# Altium footprint library QUTMS_InductorLibrary.PcbLib: 5 footprints
Each footprint in its own frame and in the unit in brackets; x right, y up, seen from the top. Pads: shape width x height; smd on the part's side, far side on the other; paste and mask are expansions set on the pad; w line width, h text height; cw(c..) or ccw(c..) is an arc to the next point about the centre after c.
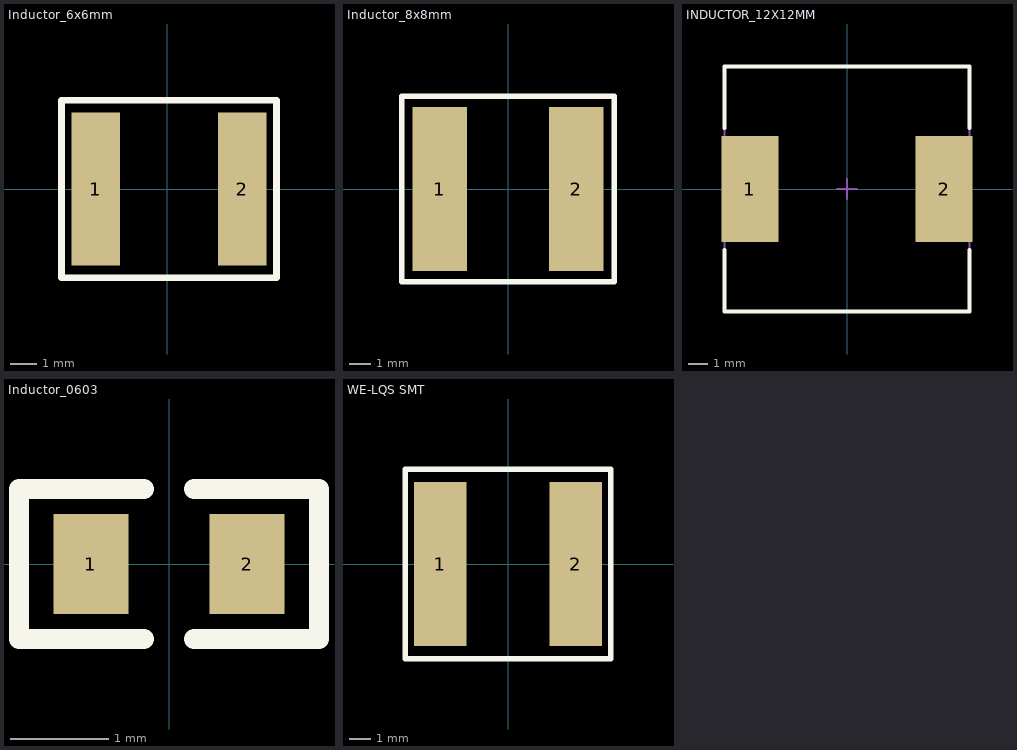
[diagram p0: the footprints below, top view; thin cyan lines are the x and y axes]

## Inductor_6x6mm [mm]
pads (2):
  rect 1.8x5.7 smd: 1(-2.667,0) 2(2.794,0)
Top Overlay:
  lines w0.254: -3.937,-3.302 -3.937,3.302 4.064,3.302 4.064,-3.302 -3.937,-3.302
3D body "74404064221_WE-LQS.stp": height 4.56, standoff 0.06, extent -3,-3 3,3

## Inductor_8x8mm [mm]
pads (2):
  rect 2.54x7.62 smd: 1(-3.175,0) 2(3.175,0)
Top Overlay:
  lines w0.254: -4.953,-4.318 4.953,-4.318 4.953,4.318 -4.953,4.318 -4.953,-4.318
3D body "74404084010_Download_STP_WE-LQS-8040_rev1.stp": height 4.41, standoff 0.21, extent -4,-4 4,4

## INDUCTOR_12X12MM [mm]
pads (2):
  rect 2.9x5.4 smd: 1(-4.95,0) 2(4.95,0)
Top Overlay:
  lines w0.2: -6.25,-3.1 -6.25,-6.25 6.25,-6.25 6.25,-3.1 ; -6.25,3.1 -6.25,6.25 6.25,6.25 6.25,3.1
Mechanical 13:
  lines w0.1: -6.25,-6.25 6.25,-6.25 6.25,6.25 -6.25,6.25 -6.25,-6.25
Mechanical 15:
  lines w0.1: -0.5,0 0.5,0 ; 0,-0.5 0,0.5
3D body "7447709001.stp": height 10.36, standoff -0.01, extent -6,-6 6,6

## Inductor_0603 [mil]
pads (2):
  rect 30x40 smd: 1(-31.24,0) 2(31.24,0)
Top Overlay:
  lines w8: -10,-30 -60,-30 -60,30 -10,30 ; 10,-30 60,-30 60,30 10,30
3D body "rsmd-0603_l1-6_w0-8_h0-45.stp": height 17.72, standoff 0, extent -31.49,-15.74 31.5,15.75

## WE-LQS SMT [mm]
pads (2):
  rect 2.4x7.5 smd: 1(-3.1,0) 2(3.1,0)
Top Overlay:
  lines w0.254: -4.699,-4.318 4.699,-4.318 4.699,4.318 -4.699,4.318 -4.699,-4.318
3D body "74404084010_Download_STP_WE-LQS-8040_rev1.stp": height 4.2, standoff 0, extent -4,-4 4,4